# EAGLE library part PINHEAD_1X11 (library pinhead)
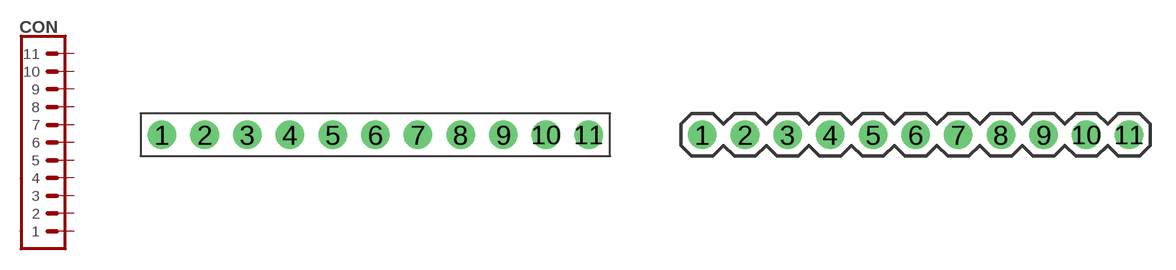
[diagram p21: symbol with the pads of PBS11; footprints PBS11, PLS11]

Designator prefix CON

## PINHEAD_1X11-2.54_STRAIGHT_FEMALE  [PBS11]
1  1  pas
2  2  pas
3  3  pas
4  4  pas
5  5  pas
6  6  pas
7  7  pas
8  8  pas
9  9  pas
10  10  pas
11  11  pas

## PINHEAD_1X11-2.54_STRAIGHT_MALE  [PLS11]
Pads as for PBS11

## PINHEAD_1X11-1.27-TH-MALE  [1X11-PTH-1.27]
Pads as for PBS11

## Footprint PBS11 (pad centres in mm)
3D model <https://grabcad.com/library/pbs-connectors-1>
drill 1.016 pad 1.7: 1 -12.7,0; 2 -10.16,0; 3 -7.62,0; 4 -5.08,0; 5 -2.54,0; 6 0,0; 7 2.54,0; 8 5.08,0; 9 7.62,0; 10 10.16,0; 11 12.7,0

## Footprint PLS11 (pad centres in mm)
3D model <https://grabcad.com/library/pls-connectors-1>
drill 1.016 pad 1.7: 1 -12.7,0; 2 -10.16,0; 3 -7.62,0; 4 -5.08,0; 5 -2.54,0; 6 0,0; 7 2.54,0; 8 5.08,0; 9 7.62,0; 10 10.16,0; 11 12.7,0

## Footprint 1X11-PTH-1.27 (pad centres in mm)
drill 0.5 pad 1: 1 -6.35,0; 2 -5.08,0; 3 -3.81,0; 4 -2.54,0; 5 -1.27,0; 6 0,0; 7 1.27,0; 8 2.54,0; 9 3.81,0; 10 5.08,0; 11 6.35,0